# EAGLE library part BT121 (library sf-bluegiga)
Bluetooth 4.0 dual-mode module (Smart Ready) - BT121-A variant has an on-module ceramic chip antenna. BT121-A variant includes keepout/restrict area. Antenna edge of the module should be flush up against the edge of the PCB. See datasheet for variant layout details. IT IS EXTREMELY IMPORTANT THAT YOU FOLLOW THE LAYOUT GUIDELINES FOR THIS MODULE IN ORDER TO ENSURE MAXIMUM RANGE. THIS MEANS THAT YOU NEED A SOLID GROUND PLANE EXTENDING AT LEAST 20 mm ON THE LEFT AND RIGHT SIDES OF THE MODULE, AS SHOWN IN THE DATASHEET. Also, this module contains four internal pins which are used for programming during the manufacturing process. These pins should not be soldered, and so they are left out of the Eagle package. However, they are also shown in the tDocu layer for reference. You should ensure that no unmasked traces or vias are present under these pins. Properly masked traces and vias are safe. BT121 is a Bluetooth Smart Ready module targeted for embedded applications that require both Bluetooth Smart and Classic functionality. It integrates a high performance Bluetooth radio, a low-power ARM Cortex microcontroller and Bluegiga Bluetooth Smart stack software. BT121 can be used as a Bluetooth modem in devices where the end-user application runs on a external host processor, but applications can be loaded also on the embedded micro-controller for truly standalone devices where size and cost needs to be minimized. BT121 Bluetooth Smart Ready Module supports Bluetooth SPP, Apple's iAP1 and iAP2 profiles as well GATT based Bluetooth Smart profiles. https://www.bluegiga.com/en-US/products/bluetooth-4.0-modules/bt121-bluetooth--smart-ready https://github.com/jrowberg/sf-oshw Last updated 2015-03-21 by Jeff Rowberg <jeff@rowberg.net>
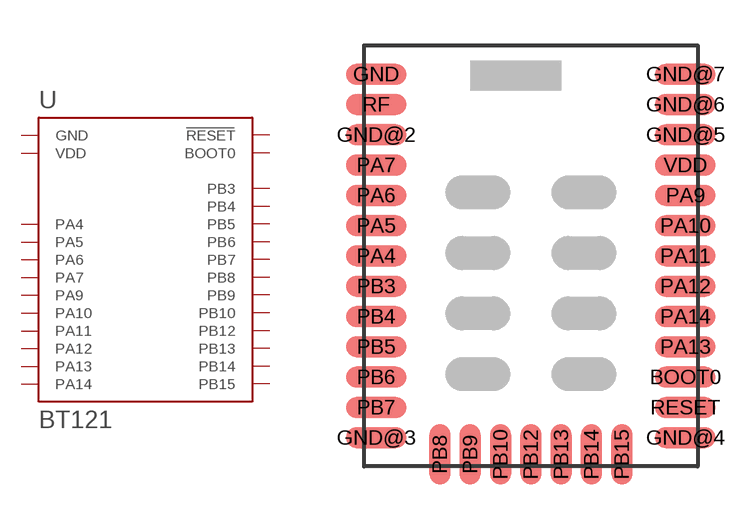
[diagram p27: symbol with the pads of BT121-A; footprint BT121-A]

Designator prefix U

## BT121-A (ANTENNA: On-module ceramic chip antenna)  [BT121-A]
BOOT0  BOOT0
GND  GND  pwr
GND@2  GND  pwr
GND@3  GND  pwr
GND@4  GND  pwr
GND@5  GND  pwr
GND@6  GND  pwr
GND@7  GND  pwr
PA4  PA4
PA5  PA5
PA6  PA6
PA7  PA7
PA9  PA9
PA10  PA10
PA11  PA11
PA12  PA12
PA13  PA13
PA14  PA14
PB3  PB3
PB4  PB4
PB5  PB5
PB6  PB6
PB7  PB7
PB8  PB8
PB9  PB9
PB10  PB10
PB12  PB12
PB13  PB13
PB14  PB14
PB15  PB15
RESET  RESET  in
RF  GND  pwr
VDD  VDD  pwr

## Footprint BT121-A (pad centres in mm)
Bluetooth 4.0 dual-mode module (Smart Ready) - BT121-A variant has an on-module ceramic chip antenna. BT121-A variant includes keepout/restrict area. Antenna edge of the module should be flush up against the edge of the PCB. See datasheet for variant layout details. IT IS EXTREMELY IMPORTANT THAT YOU FOLLOW THE LAYOUT GUIDELINES FOR THIS MODULE IN ORDER TO ENSURE MAXIMUM RANGE. THIS MEANS THAT YOU NEED A SOLID GROUND PLANE EXTENDING AT LEAST 20 mm ON THE LEFT AND RIGHT SIDES OF THE MODULE, AS SHOWN IN THE DATASHEET. Also, this module contains four internal pins which are used for programming during the manufacturing process. These pins should not be soldered, and so they are left out of the Eagle package. However, they are also shown in the tDocu layer for reference. You should ensure that no unmasked traces or vias are present under these pins. Properly masked traces and vias are safe. BT121 is a Bluetooth Smart Ready module targeted for embedded applications that require both Bluetooth Smart and Classic functionality. It integrates a high performance Bluetooth radio, a low-power ARM Cortex microcontroller and Bluegiga Bluetooth Smart stack software. BT121 can be used as a Bluetooth modem in devices where the end-user application runs on a external host processor, but applications can be loaded also on the embedded micro-controller for truly standalone devices where size and cost needs to be minimized. BT121 Bluetooth Smart Ready Module supports Bluetooth SPP, Apple's iAP1 and iAP2 profiles as well GATT based Bluetooth Smart profiles. https://www.bluegiga.com/en-US/products/bluetooth-4.0-modules/bt121-bluetooth--smart-ready https://github.com/jrowberg/sf-oshw Last updated 2015-03-21 by Jeff Rowberg <jeff@rowberg.net>
smd 2 x 0.7: BOOT0 5.1,-4; GND -5.1,6; GND@2 -5.1,4; GND@3 -5.1,-6; GND@4 5.1,-6; GND@5 5.1,4; GND@6 5.1,5; GND@7 5.1,6; PA4 -5.1,0; PA5 -5.1,1; PA6 -5.1,2; PA7 -5.1,3; PA9 5.1,2; PA10 5.1,1; PA11 5.1,0; PA12 5.1,-1; PA13 5.1,-3; PA14 5.1,-2; PB3 -5.1,-1; PB4 -5.1,-2; PB5 -5.1,-3; PB6 -5.1,-4; PB7 -5.1,-5; RESET 5.1,-5; RF -5.1,5; VDD 5.1,3
smd 0.7 x 2: PB8 -3,-6.55; PB9 -2,-6.55; PB10 -1,-6.55; PB12 0,-6.55; PB13 1,-6.55; PB14 2,-6.55; PB15 3,-6.55